# Altium footprint library 430450201.PcbLib: 1 footprints
Each footprint in its own frame and in the unit in brackets; x right, y up, seen from the top. Pads: shape width x height; smd on the part's side, far side on the other; paste and mask are expansions set on the pad; w line width, h text height; cw(c..) or ccw(c..) is an arc to the next point about the centre after c.
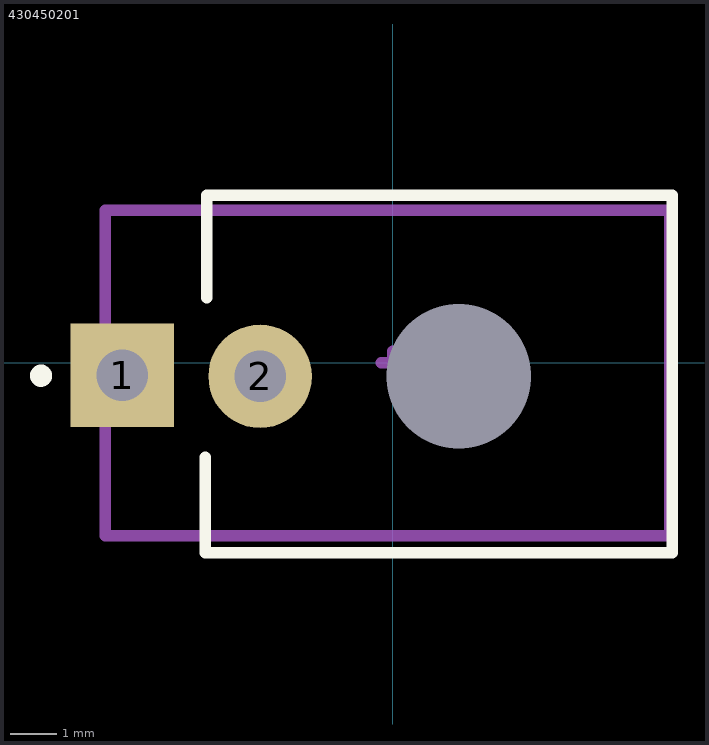
[diagram p0: the footprint, top view; thin cyan lines are the x and y axes]

## 430450201 [mm]
pads (3):
  rect 2.25x2.25 hole 1.12: 1(-5.887,-0.275)
  round 2.25 hole 1.12: 2(-2.888,-0.3)
  round 1.524 hole 3.15: ""(1.432,-0.3)
Top Overlay:
  circle w0.254: c-7.65,-0.287 r0.114
  lines w0.25: -4.075,-2.062 -4.075,-4.137 6.075,-4.137 6.075,3.638 -4.05,3.638 -4.05,1.413
Mechanical 13:
  lines w0.25: -6.25,-3.762 6.025,-3.762 6.025,3.313 -6.25,3.313 -6.25,-3.762
Mechanical 15:
  lines w0.25: -0.25,0 0,0 ; 0,-0.25 0,0 ; 0,0.25 0,0 ; 0.25,0 0,0
3D body "430450201--3DModel-STEP-390490.STEP": height 8.83, standoff -3.12, extent -6.285,-3.825 5.955,3.325